# Altium schematic symbol library U_74LVC2G00.SchLib: 1 symbol
Pins are listed as number, name and electrical type; pins without a type are passive.

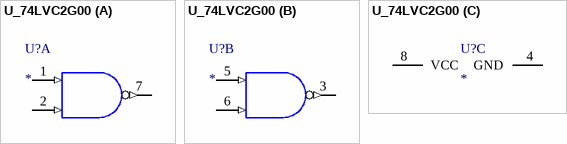
[diagram p0: symbol U_74LVC2G00]

## U_74LVC2G00
designator U?
part A pins: 1 1A (in) "A input for gate 1", 2 1B (in) "B input for gate 1", 7 1Y (out) "Output for gate 1"
part B pins: 3 2Y (out) "Output for gate 2", 5 2A (in) "A input for gate 2", 6 2B (in) "B input for gate 2"
part C pins: 4 GND (power) "Ground", 8 VCC (power) "Power input."